# Altium footprint library FMC_SDR_XFE.PcbLib: 41 footprints (part 3 of 3)
Each footprint in its own frame and in the unit in brackets; x right, y up, seen from the top. Pads: shape width x height; smd on the part's side, far side on the other; paste and mask are expansions set on the pad; w line width, h text height; cw(c..) or ccw(c..) is an arc to the next point about the centre after c.
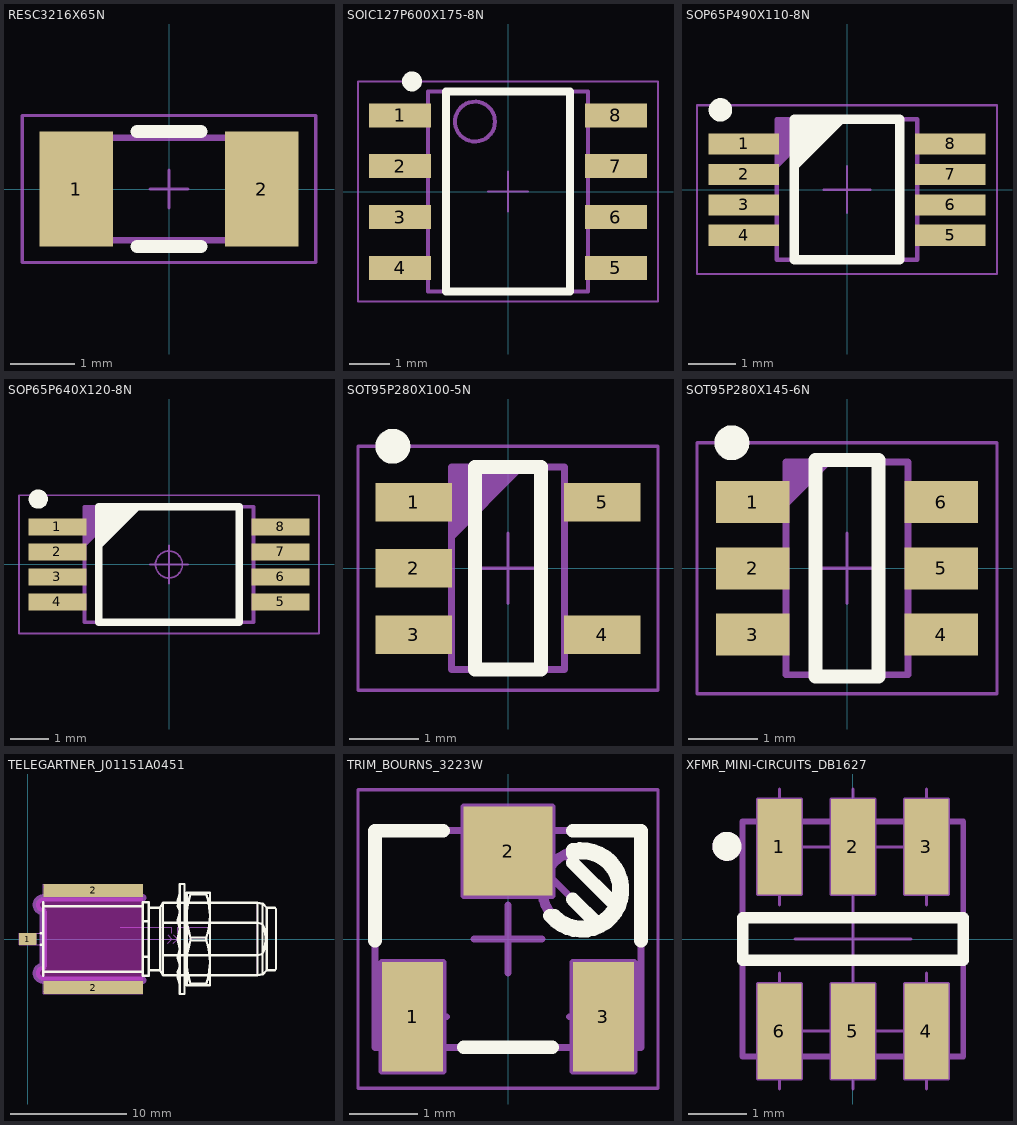
[diagram p2: the footprints below, top view; thin cyan lines are the x and y axes]

## RESC3216X65N [mm] "Chip Resistor, EIA 1206, Metric 3216, Body 3.2x1.6mm, IPC Medium Density"
height 0.65
pads (2):
  rect 1.15x1.8 smd: 1(-1.45,0) 2(1.45,0)
Top Overlay:
  lines w0.2: -0.5,-0.9 0.5,-0.9 ; -0.5,0.9 0.5,0.9
Mechanical 14:
  lines w0.1: -1.6,-0.8 -1.6,0.8 1.6,0.8 1.6,-0.8 -1.6,-0.8
Mechanical 15:
  lines w0.05: -0.3,0 0.3,0 ; 0,-0.3 0,0.3 ; -2.3,-1.15 -2.3,1.15 2.3,1.15 2.3,-1.15 -2.3,-1.15
3D body "RESC3216X65N.stp": height 0.65, standoff 0, extent -1.675,-0.875 1.675,0.875

## SOIC127P600X175-8N [mm] "SOIC 8, Pitch 1.27mm - Body 4x5mm, IPC Medium Density"
height 1.75
pads (8):
  rect 1.55x0.6 smd: 1(-2.7,1.905) 2(-2.7,0.635) 3(-2.7,-0.635) 4(-2.7,-1.905) 5(2.7,-1.905) 6(2.7,-0.635) 7(2.7,0.635) 8(2.7,1.905)
Top Overlay:
  circle w0.25: c-2.4,2.755 r0.125
  lines w0.2: -1.55,-2.5 1.55,-2.5 1.55,2.5 -1.55,2.5 -1.55,-2.5
Mechanical 14:
  circle w0.1: c-0.825,1.75 r0.5
  lines w0.1: -2,-2.5 2,-2.5 2,2.5 -2,2.5 -2,-2.5
Mechanical 15:
  lines w0.05: -0.5,0 0.5,0 ; 0,-0.5 0,0.5 ; -3.75,-2.75 3.75,-2.75 3.75,2.75 -3.75,2.75 -3.75,-2.75
3D body "SOIC127P600X175-8N.stp": height 1.75, standoff 0, extent -3.1,-2.5 3.1,2.5

## SOP65P490X110-8N [mm] "SOP, 0.65mm pitch; 8 pin, 3.00mm W X 3.00mm L X 1.10mm H body, IPC Medium Density"
height 1.1
pads (8):
  rect 1.5x0.45 smd: 1(-2.2,0.975) 2(-2.2,0.325) 3(-2.2,-0.325) 4(-2.2,-0.975) 5(2.2,-0.975) 6(2.2,-0.325) 7(2.2,0.325) 8(2.2,0.975)
Top Overlay:
  circle w0.25: c-2.7,1.7 r0.125
  lines w0.2: -1.125,0.5 -0.125,1.5 ; -1.125,0.7 -0.325,1.5 ; -1.125,0.9 -0.525,1.5 ; -1.125,1.1 -0.725,1.5 ; -1.125,1.3 -0.925,1.5 ; -1.125,-1.5 -1.125,1.5 1.125,1.5 1.125,-1.5 -1.125,-1.5
Mechanical 14:
  lines w0.1: -1.5,0.5 -0.5,1.5 ; -1.5,0.6 -0.6,1.5 ; -1.5,0.7 -0.7,1.5 ; -1.5,0.8 -0.8,1.5 ; -1.5,0.9 -0.9,1.5 ; -1.5,1 -1,1.5 ; -1.5,1.1 -1.1,1.5 ; -1.5,1.2 -1.2,1.5 ; -1.5,1.3 -1.3,1.5 ; -1.5,1.4 -1.4,1.5 ; -1.5,-1.5 -1.5,1.5 1.5,1.5 1.5,-1.5 -1.5,-1.5
Mechanical 15:
  lines w0.05: -0.5,0 0.5,0 ; 0,-0.5 0,0.5 ; -3.2,-1.8 3.2,-1.8 3.2,1.8 -3.2,1.8 -3.2,-1.8
3D body "SOP65P490X110-8N.stp": height 1.1, standoff 0, extent -2.45,-1.55 2.45,1.55

## SOP65P640X120-8N [mm] "SOP, 0.65mm pitch; 8 pin, 4.40mm W X 3.00mm L X 1.20mm H body, IPC Medium Density"
height 1.2
pads (8):
  rect 1.5x0.45 smd: 1(-2.9,0.975) 2(-2.9,0.325) 3(-2.9,-0.325) 4(-2.9,-0.975) 5(2.9,-0.975) 6(2.9,-0.325) 7(2.9,0.325) 8(2.9,0.975)
Top Overlay:
  circle w0.25: c-3.4,1.7 r0.125
  lines w0.2: -1.825,0.5 -0.825,1.5 ; -1.825,0.7 -1.025,1.5 ; -1.825,0.9 -1.225,1.5 ; -1.825,1.1 -1.425,1.5 ; -1.825,1.3 -1.625,1.5 ; -1.825,-1.5 -1.825,1.5 1.825,1.5 1.825,-1.5 -1.825,-1.5
Mechanical 14:
  lines w0.1: -2.2,0.5 -1.2,1.5 ; -2.2,0.6 -1.3,1.5 ; -2.2,0.7 -1.4,1.5 ; -2.2,0.8 -1.5,1.5 ; -2.2,0.9 -1.6,1.5 ; -2.2,1 -1.7,1.5 ; -2.2,1.1 -1.8,1.5 ; -2.2,1.2 -1.9,1.5 ; -2.2,1.3 -2,1.5 ; -2.2,1.4 -2.1,1.5 ; -2.2,-1.5 -2.2,1.5 2.2,1.5 2.2,-1.5 -2.2,-1.5
Mechanical 15:
  circle w0.05: c0,0 r0.35
  lines w0.05: -0.5,0 0.5,0 ; 0,-0.5 0,0.5 ; -3.9,-1.8 -3.9,1.8 3.9,1.8 3.9,-1.8 -3.9,-1.8
3D body "SOP65P640X120-8N.stp": height 1.2, standoff 0, extent -3.201,-1.55 3.201,1.55

## SOT95P280X100-5N [mm] "SOT23, 0.95mm pitch; 5 pin, 1.625mm W X 2.9mm L, IPC Medium Density"
height 1
pads (5):
  rect 1.1x0.55 smd: 1(-1.35,0.95) 2(-1.35,0) 3(-1.35,-0.95) 4(1.35,-0.95) 5(1.35,0.95)
Top Overlay:
  circle w0.25: c-1.65,1.75 r0.125
  lines w0.2: -0.475,-1.45 -0.475,1.45 0.475,1.45 0.475,-1.45 -0.475,-1.45
Mechanical 14:
  lines w0.1: -0.812,0.45 0.188,1.45 ; -0.812,0.55 0.088,1.45 ; -0.812,0.65 -0.012,1.45 ; -0.812,0.75 -0.112,1.45 ; -0.812,0.85 -0.212,1.45 ; -0.812,0.95 -0.312,1.45 ; -0.812,1.05 -0.412,1.45 ; -0.812,1.15 -0.512,1.45 ; -0.812,1.25 -0.612,1.45 ; -0.812,1.35 -0.712,1.45 ; -0.812,-1.45 -0.812,1.45 0.812,1.45 0.812,-1.45 -0.812,-1.45
Mechanical 15:
  lines w0.05: -0.5,0 0.5,0 ; 0,-0.5 0,0.5 ; -2.15,-1.75 -2.15,1.75 2.15,1.75 2.15,-1.75 -2.15,-1.75
3D body "SOT95P280X100-5N.stp": height 1, standoff 0, extent -1.4,-1.5 1.4,1.5

## SOT95P280X145-6N [mm] "SOT23, 6-Leads, Body 1.6x3.0mm, Pitch 0.95mm, IPC Medium Density"
height 1.45
pads (6):
  rect 1.05x0.6 smd: 1(-1.35,0.95) 2(-1.35,0) 3(-1.35,-0.95) 4(1.35,-0.95) 5(1.35,0) 6(1.35,0.95)
Top Overlay:
  circle w0.25: c-1.65,1.8 r0.125
  lines w0.2: -0.45,-1.55 0.45,-1.55 0.45,1.55 -0.45,1.55 -0.45,-1.55
Mechanical 14:
  lines w0.1: -0.875,0.925 -0.275,1.525 ; -0.875,1.025 -0.375,1.525 ; -0.875,1.125 -0.475,1.525 ; -0.875,1.225 -0.575,1.525 ; -0.875,1.325 -0.675,1.525 ; -0.875,1.425 -0.775,1.525 ; -0.875,-1.525 -0.875,1.525 0.875,1.525 0.875,-1.525 -0.875,-1.525
Mechanical 15:
  lines w0.05: -0.5,0 0.5,0 ; 0,-0.5 0,0.5 ; -2.15,-1.8 -2.15,1.8 2.15,1.8 2.15,-1.8 -2.15,-1.8
3D body "SOT95P280X145-6N.stp": height 1.45, standoff 0, extent -1.4,-1.5 1.4,1.5

## TELEGARTNER_J01151A0451 [mm] "SMA 50 ohm Edge Mount Bulkhead Jack Receptacle"
height 7
pads (3):
  rect 1.5x1 smd: 1(0,0)
  rect 8.6x1.1 smd: 2(5.65,-4.2) 2(5.65,4.2)
Top Overlay:
  lines w0.2: 1.1,-0.5 1.35,-0.5 ; 1.1,0.5 1.35,0.5 ; 1.35,-3.2 1.35,3.2 ; 1.35,-2.828 9.95,-2.828 ; 1.35,2.828 9.95,2.828 ; 9.95,-3.2 9.95,3.2 ; 9.95,-3.175 10.45,-3.175 10.45,3.175 9.95,3.175 ; 9.95,-1.534 10.45,-1.534 ; 9.95,1.534 10.45,1.534 ; 10.45,-2.7 11.45,-2.7 ; 10.45,2.7 11.45,2.7 ; 11.692,-1.416 19.85,-1.416 20.292,-1.274 ccw(c17.512,0) 20.292,1.274 19.85,1.416 11.692,1.416 ; 13.15,-4 12.95,-3.312 13.15,-3.253 ; 13.15,-3.415 12.95,-2.868 13.15,-2.36 ; 13.15,-2.31 12.95,-1.656 13.15,-0.886 ; 13.15,-0.817 12.95,0 13.15,0.825 ; 13.15,0.894 12.95,1.656 13.15,2.316 ; 13.15,2.366 12.95,2.868 13.15,3.464 ; 13.15,3.253 12.95,3.312 13.15,4 ; 13.55,-4 13.75,-3.312 13.55,-3.253 ; 13.55,-3.464 13.75,-2.868 13.55,-2.367 ; 13.55,-2.299 13.75,-1.656 13.55,-0.906 ; 13.55,-0.813 13.75,0 13.55,0.813 ; 13.55,0.906 13.75,1.656 13.55,2.306 ; 13.55,2.374 13.75,2.868 13.55,3.464 ; 13.55,3.253 13.75,3.312 13.55,4 ; 14.067,-4 14.067,-3.875 ; 14.067,4 14.067,3.875 ; 15.433,-4 15.433,-3.875 ; 15.433,4 15.433,3.875 ; 21.35,-2.7 20.65,-2.7 ; 21.35,2.7 20.65,2.7 ; 21.45,-2.6 21.45,2.6 ; 11.45,-2.7 11.692,-3.12 ; 11.45,-2.7 11.45,2.7 ; 11.45,2.7 11.692,3.12 ; 11.692,-3.12 19.85,-3.12 ; 11.692,-3.12 11.692,3.12 ; 11.692,3.12 19.85,3.12 ; 14.067,-3.875 cw(c19.461,-2) 14.067,-0.125 ; 14.067,-3.875 15.433,-3.875 ; 14.067,-0.125 14.067,0.125 ; 14.067,-0.125 15.433,-0.125 ; 14.067,0.125 cw(c19.461,2) 14.067,3.875 ; 14.067,0.125 15.433,0.125 ; 14.067,3.875 15.433,3.875 ; 15.433,-3.875 ccw(c10.039,-2) 15.433,-0.125 ; 15.433,-0.125 15.433,0.125 ; 15.433,0.125 ccw(c10.039,2) 15.433,3.875 ; 19.85,-3.12 19.85,3.12 ; 19.85,-3.12 20.292,-3.058 ; 19.85,3.12 20.292,3.058 ; 20.292,-3.058 20.65,-2.7 ; 20.292,-3.058 20.292,3.058 ; 20.292,3.058 20.65,2.7 ; 20.65,-2.7 20.65,2.7 ; 13.15,-4.75 13.55,-4.75 13.55,4.75 13.15,4.75 13.15,-4.75 ; 13.75,-4 13.75,4 15.75,4 15.75,-4 13.75,-4
Keep-Out Layer:
  board cut-out: 1.35,-3.55 1.231,-3.55 1.01,-3.459 0.841,-3.29 0.75,-3.069 0.75,-2.831 0.841,-2.61 1.01,-2.441 1.231,-2.35 1.35,-2.35 1.35,2.35 1.231,2.35 1.01,2.441 0.841,2.61 0.75,2.831 0.75,3.069 0.841,3.29 1.01,3.459 1.231,3.55 1.35,3.55 9.95,3.55 9.95,-3.55
Mechanical 1:
  lines w0.635: 9.95,-3.55 1.35,-3.55 cw(c1.35,-2.95) 1.35,-2.35 1.35,2.35 cw(c1.35,2.95) 1.35,3.55 9.95,3.55
Mechanical 8:
  lines w0.1: -0.5,0 0,0 ; 0,-0.5 0,0 ; 0,0.5 0,0 ; 0.5,0 0,0 ; 5.15,-4.2 5.65,-4.2 ; 5.15,4.2 5.65,4.2 ; 5.65,-4.7 5.65,-4.2 ; 5.65,-3.7 5.65,-4.2 ; 5.65,3.7 5.65,4.2 ; 5.65,4.7 5.65,4.2 ; 6.15,-4.2 5.65,-4.2 ; 6.15,4.2 5.65,4.2 ; 8,1 12.45,1 12.45,0.5 ; 9.95,-0.25 9.95,0.25 ; 9.95,0 12.45,0 ; 12.096,-0.354 12.45,0 ; 12.096,0.354 12.45,0 ; 12.596,-0.354 12.95,0 ; 12.596,0.354 12.95,0 ; 12.95,0.5 12.95,1 15.75,1 ; 12.45,0 12.95,0 ; -0.75,-0.5 0.75,-0.5 0.75,0.5 -0.75,0.5 -0.75,-0.5 ; 1.35,-4.75 1.35,-3.65 9.95,-3.65 9.95,-4.75 1.35,-4.75 ; 1.35,3.65 1.35,4.75 9.95,4.75 9.95,3.65 1.35,3.65
  text "3mm" at 13.05,1.275 h1
  text "2.5mm" at 8,1.25 h1
Mechanical 14:
  lines w0.1: 1.35,-3.5 2.35,-3.5 ; 1.35,-2.828 9.95,-2.828 ; 1.35,-0.5 -0.65,-0.5 -0.65,0.5 1.35,0.5 ; 1.35,2.828 9.95,2.828 ; 1.35,3.5 2.35,3.5 ; 3.35,-3.5 4.35,-3.5 ; 3.35,3.5 4.35,3.5 ; 5.35,-3.5 5.95,-3.5 ; 5.35,3.5 5.95,3.5 ; 6.95,-3.5 7.95,-3.5 ; 6.95,3.5 7.95,3.5 ; 8.95,-3.5 9.95,-3.5 ; 8.95,3.5 9.95,3.5 ; 9.95,-3.175 10.45,-3.175 10.45,3.175 9.95,3.175 ; 9.95,-1.534 10.45,-1.534 ; 9.95,1.534 10.45,1.534 ; 10.45,-2.7 11.45,-2.7 ; 10.45,2.7 11.45,2.7 ; 11.692,-1.416 19.85,-1.416 20.292,-1.274 ccw(c17.512,0) 20.292,1.274 19.85,1.416 11.692,1.416 ; 13.15,-4 12.95,-3.312 13.15,-3.253 ; 13.15,-3.415 12.95,-2.868 13.15,-2.36 ; 13.15,-2.31 12.95,-1.656 13.15,-0.886 ; 13.15,-0.817 12.95,0 13.15,0.825 ; 13.15,0.894 12.95,1.656 13.15,2.316 ; 13.15,2.366 12.95,2.868 13.15,3.464 ; 13.15,3.253 12.95,3.312 13.15,4 ; 13.55,-4 13.75,-3.312 13.55,-3.253 ; 13.55,-3.464 13.75,-2.868 13.55,-2.367 ; 13.55,-2.299 13.75,-1.656 13.55,-0.906 ; 13.55,-0.813 13.75,0 13.55,0.813 ; 13.55,0.906 13.75,1.656 13.55,2.306 ; 13.55,2.374 13.75,2.868 13.55,3.464 ; 13.55,3.253 13.75,3.312 13.55,4 ; 14.067,-4 14.067,-3.875 ; 14.067,4 14.067,3.875 ; 15.433,-4 15.433,-3.875 ; 15.433,4 15.433,3.875 ; 21.35,-2.7 20.65,-2.7 ; 21.35,2.7 20.65,2.7 ; 21.45,-2.6 21.45,2.6 ; 11.45,-2.7 11.692,-3.12 ; 11.45,-2.7 11.45,2.7 ; 11.45,2.7 11.692,3.12 ; 11.692,-3.12 19.85,-3.12 ; 11.692,-3.12 11.692,3.12 ; 11.692,3.12 19.85,3.12 ; 14.067,-3.875 cw(c19.461,-2) 14.067,-0.125 ; 14.067,-3.875 15.433,-3.875 ; 14.067,-0.125 14.067,0.125 ; 14.067,-0.125 15.433,-0.125 ; 14.067,0.125 cw(c19.461,2) 14.067,3.875 ; 14.067,0.125 15.433,0.125 ; 14.067,3.875 15.433,3.875 ; 15.433,-3.875 ccw(c10.039,-2) 15.433,-0.125 ; 15.433,-0.125 15.433,0.125 ; 15.433,0.125 ccw(c10.039,2) 15.433,3.875 ; 19.85,-3.12 19.85,3.12 ; 19.85,-3.12 20.292,-3.058 ; 19.85,3.12 20.292,3.058 ; 20.292,-3.058 20.65,-2.7 ; 20.292,-3.058 20.292,3.058 ; 20.292,3.058 20.65,2.7 ; 20.65,-2.7 20.65,2.7 ; 1.35,-4.5 9.95,-4.5 9.95,4.5 1.35,4.5 1.35,-4.5 ; 13.15,-4.75 13.55,-4.75 13.55,4.75 13.15,4.75 13.15,-4.75 ; 13.75,-4 13.75,4 15.75,4 15.75,-4 13.75,-4
Drill Drawing:
  lines w0.1: 1.348,2.468 0.926,3.374 ; 1.832,2.952 0.926,3.374 ; 2.29,-2.104 1.35,-1.762 ; 2.29,-1.42 1.35,-1.762 ; 5.14,2.083 2.217,2.083 0.926,3.374 ; 7.794,-2.61 8.136,-3.55 ; 7.794,2.61 8.136,3.55 ; 8.478,-2.61 8.136,-3.55 ; 8.478,2.61 8.136,3.55 ; 9.01,-2.104 9.95,-1.762 ; 9.01,-1.42 9.95,-1.762 ; 9.95,-4.55 9.95,-3.55 1.35,-3.55 cw(c1.35,-2.95) 1.35,-2.35 1.35,2.35 cw(c1.35,2.95) 1.35,3.55 9.95,3.55 9.95,4.55 ; 9.95,-2.762 9.95,-0.762 ; 1.35,-1.762 9.95,-1.762 ; 8.136,-3.55 8.136,3.55
  text "7.1" at 7.889,-0.244 h1
  text "8.6" at 4.762,-1.609 h1
  text "r0.6" at 2.536,2.233 h1
3D body "TELEGARTNER_J01151A0451_Part1.stp": height 4, standoff -3.6, extent -0.65,-4.498 21.45,4.498
3D body "TELEGARTNER_J01151A0451_Part2.stp": height 5.25, standoff -4.25, extent 12.95,-4.75 15.75,4.75

## TRIM_BOURNS_3223W [mm] "Bourns 3223W Trimming Potentiometer"
height 4.16
pads (3):
  rect 0.9x1.6 smd: 1(-1.4,-1.14) 3(1.4,-1.14)
  rect 1.3x1.3 smd: 2(0,1.29)
Top Overlay:
  lines w0.2: -1.95,-0.025 -1.95,1.59 -0.95,1.59 ; -0.65,-1.59 0.65,-1.59 ; 0.616,0.34 ccw(c1.08,0.72) 0.95,1.306 ; 0.682,0.34 ccw(c1.08,0.72) 0.95,1.254 ; 0.95,0.581 1.311,0.221 ; 0.95,1.119 1.579,0.489 ; 0.95,1.59 1.95,1.59 1.95,-0.025
Mechanical 8:
  lines w0.1: -1.9,-1.14 -1.4,-1.14 ; -1.4,-1.64 -1.4,-1.14 ; -1.4,-0.64 -1.4,-1.14 ; -0.9,-1.14 -1.4,-1.14 ; -0.5,0 0,0 ; -0.5,1.29 0,1.29 ; 0,-0.5 0,0 ; 0,0.5 0,0 ; 0,0.79 0,1.29 ; 0,1.79 0,1.29 ; 0.5,0 0,0 ; 0.5,1.29 0,1.29 ; 0.9,-1.14 1.4,-1.14 ; 1.4,-1.64 1.4,-1.14 ; 1.4,-0.64 1.4,-1.14 ; 1.9,-1.14 1.4,-1.14 ; -1.85,-1.94 -0.95,-1.94 -0.95,-0.34 -1.85,-0.34 -1.85,-1.94 ; -0.65,0.64 -0.65,1.94 0.65,1.94 0.65,0.64 -0.65,0.64 ; 0.95,-1.94 1.85,-1.94 1.85,-0.34 0.95,-0.34 0.95,-1.94
Mechanical 14:
  circle w0.1: c1.08,0.72 r0.6
  circle w0.1: c1.08,0.72 r0.55
  lines w0.1: -1.66,-1.59 -1.66,-1.807 -1.1,-1.81 -1.1,-1.59 ; -0.49,1.59 -0.49,1.81 0.49,1.81 0.49,1.59 ; 0.581,0.951 1.311,0.221 ; 0.849,1.219 1.579,0.489 ; 1.1,-1.59 1.1,-1.81 1.66,-1.81 1.66,-1.59 ; -1.95,-1.59 1.95,-1.59 1.95,1.59 -1.95,1.59 -1.95,-1.59
Mechanical 15:
  lines w0.05: -2.2,-2.19 -2.2,2.19 2.2,2.19 2.2,-2.19 -2.2,-2.19
3D body "TRIM_BOURNS_3223W.stp": height 4.16, standoff 0, extent -1.95,-1.81 1.95,1.81

## XFMR_MINI-CIRCUITS_DB1627 [mm] "MINI-CIRCUITS RF Transformer, Case DB1627 - Body 4.06X3.81mm"
height 4.06
pads (6):
  rect 0.76x1.65 smd: 1(-1.27,1.59) 2(0,1.59) 3(1.27,1.59) 4(1.27,-1.59) 5(0,-1.59) 6(-1.27,-1.59)
Top Overlay:
  circle w0.25: c-2.175,1.6 r0.125
  lines w0.2: -1.905,-0.365 -1.905,0.365 1.905,0.365 1.905,-0.365 -1.905,-0.365
Mechanical 8:
  lines w0.05: -1.27,-2.59 -1.27,-1.59 ; -1.27,-0.59 -1.27,-1.59 ; -1.27,0.59 -1.27,1.59 ; -1.27,2.59 -1.27,1.59 ; -1,0 0,0 ; 0,-2.59 0,-1.59 0,-0.59 ; 0,-1 0,0 ; 0,0.59 0,1.59 0,2.59 ; 0,1 0,0 ; 1,0 0,0 ; 1.27,-2.59 1.27,-1.59 1.27,-0.59 ; 1.27,0.59 1.27,1.59 1.27,2.59 ; 1.65,-1.59 -1.27,-1.59 ; 1.65,1.59 -1.27,1.59 ; -1.65,-2.415 -1.65,-0.765 -0.89,-0.765 -0.89,-2.415 -1.65,-2.415 ; -1.65,0.765 -1.65,2.415 -0.89,2.415 -0.89,0.765 -1.65,0.765 ; -0.38,-2.415 -0.38,-0.765 0.38,-0.765 0.38,-2.415 -0.38,-2.415 ; -0.38,0.765 -0.38,2.415 0.38,2.415 0.38,0.765 -0.38,0.765 ; 0.89,-2.415 0.89,-0.765 1.65,-0.765 1.65,-2.415 0.89,-2.415 ; 0.89,0.765 0.89,2.415 1.65,2.415 1.65,0.765 0.89,0.765
Mechanical 14:
  circle w0.25: c-2.175,1.6 r0.125
  lines w0.1: -1.905,-2.03 -1.905,2.03 1.905,2.03 1.905,-2.03 -1.905,-2.03 ; -1.625,-2.03 -0.915,-2.03 -0.915,-1.01 -1.625,-1.01 -1.625,-2.03 ; -1.625,1.01 -0.915,1.01 -0.915,2.03 -1.625,2.03 -1.625,1.01 ; -0.355,-2.03 0.355,-2.03 0.355,-1.01 -0.355,-1.01 -0.355,-2.03 ; -0.355,1.01 0.355,1.01 0.355,2.03 -0.355,2.03 -0.355,1.01 ; 0.915,-2.03 1.625,-2.03 1.625,-1.01 0.915,-1.01 0.915,-2.03 ; 0.915,1.01 1.625,1.01 1.625,2.03 0.915,2.03 0.915,1.01
3D body "XFMR_MINI-CIRCUITS_DB1627.stp": height 4.06, standoff 0, extent -1.905,-2.03 1.905,2.03